# Altium schematic symbol library Cap 100uF_16V.Schlib: 1 symbol
Pins are listed as number, name and electrical type; pins without a type are passive.

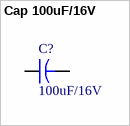
[diagram p0: symbol Cap 100uF/16V]

## Cap 100uF/16V
designator C?, comment 100uF/16V
Electrolytic capacitor
pins: 1, 2